# Altium schematic symbol library SCH - POWER - LINEAR VREG - TI LP2992-1P5NGD.SchLib: 1 symbol
Pins are listed as number, name and electrical type; pins without a type are passive.

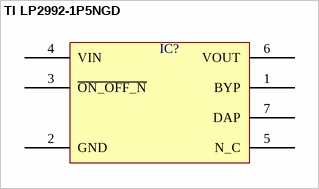
[diagram p0: symbol TI LP2992-1P5NGD]

## TI LP2992-1P5NGD
designator IC?  (value not drawn)
pins: 1 BYP, 2 GND, 3 ~{ON_OFF_N}, 4 VIN, 5 N_C, 6 VOUT, 7 DAP